# EAGLE library part STM300(C)_TCM300(C)_DEVICE (library Deegou_IC)
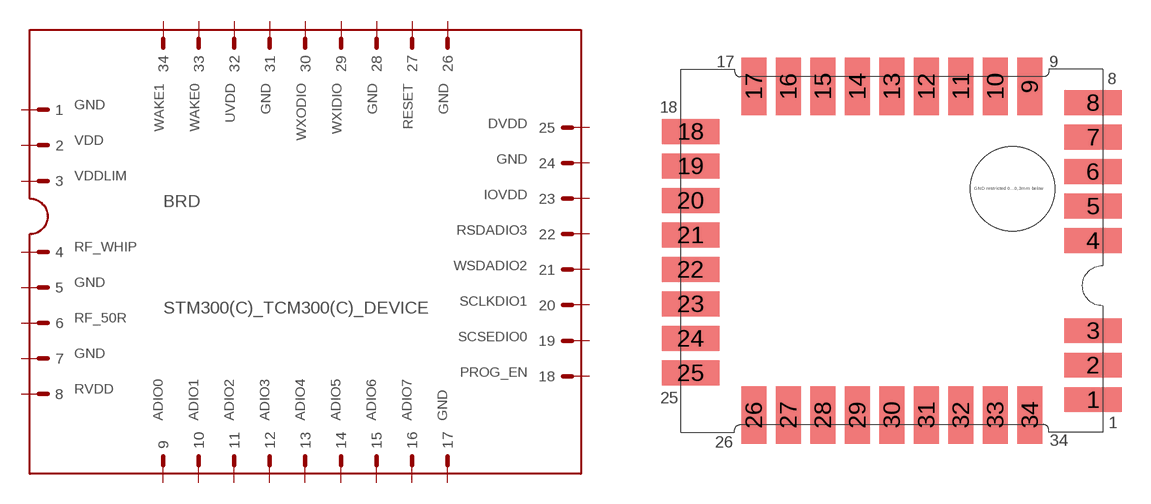
[diagram p147: symbol with the pads of STM300(C)_TCM300(C)_FOOTPRINT; footprint STM300(C)_TCM300(C)_FOOTPRINT]

Designator prefix BRD

## STM300(C)_TCM300(C)_DEVICE  [STM300(C)_TCM300(C)_FOOTPRINT]
1  1  pas
2  2  pas
3  3  pas
4  4  pas
5  5  pas
6  6  pas
7  7  pas
8  8  pas
9  9  pas
10  10  pas
11  11  pas
12  12  pas
13  13  pas
14  14  pas
15  15  pas
16  16  pas
17  17  pas
18  18  pas
19  19  pas
20  20  pas
21  21  pas
22  22  pas
23  23  pas
24  24  pas
25  25  pas
26  26  pas
27  27  pas
28  28  pas
29  29  pas
30  30  pas
31  31  pas
32  32  pas
33  33  pas
34  34  pas

## Footprint STM300(C)_TCM300(C)_FOOTPRINT (pad centres in mm)
smd 3 x 1.3: 1 21.5,1.7; 2 21.5,3.5; 3 21.5,5.3; 4 21.5,10; 5 21.5,11.8; 6 21.5,13.6; 7 21.5,15.4; 8 21.5,17.2; 18 0.5,15.7; 19 0.5,13.9; 20 0.5,12.1; 21 0.5,10.3; 22 0.5,8.5; 23 0.5,6.7; 24 0.5,4.9; 25 0.5,3.1
smd 1.3 x 3: 9 18.2,18.05; 10 16.4,18.05; 11 14.6,18.05; 12 12.8,18.05; 13 11,18.05; 14 9.2,18.05; 15 7.4,18.05; 16 5.6,18.05; 17 3.8,18.05; 26 3.8,0.9; 27 5.6,0.9; 28 7.4,0.9; 29 9.2,0.9; 30 11,0.9; 31 12.8,0.9; 32 14.6,0.9; 33 16.4,0.9; 34 18.2,0.9